# Altium schematic symbol library DIODES_74AHC1G86_SOT353.SchLib: 1 symbol
Pins are listed as number, name and electrical type; pins without a type are passive.

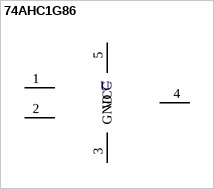
[diagram p0: symbol 74AHC1G86]

## 74AHC1G86
designator U  (value not drawn)
1CH 2IN XOR; Supplier 1: Digikey; Supplier Part Number 1: 74AHC1G86SE-7DICT-ND
footprint SOT65P210X110-5N (SOT23, 5-Leads, Body 2.00x2.10mm, Pitch 0.65mm, IPC Medium Density)
pins: 1, 2, 3 GND, 4, 5 VCC